# Altium footprint library LPS25HB_Breakout.PcbLib: 1 footprints
Each footprint in its own frame and in the unit in brackets; x right, y up, seen from the top. Pads: shape width x height; smd on the part's side, far side on the other; paste and mask are expansions set on the pad; w line width, h text height; cw(c..) or ccw(c..) is an arc to the next point about the centre after c.
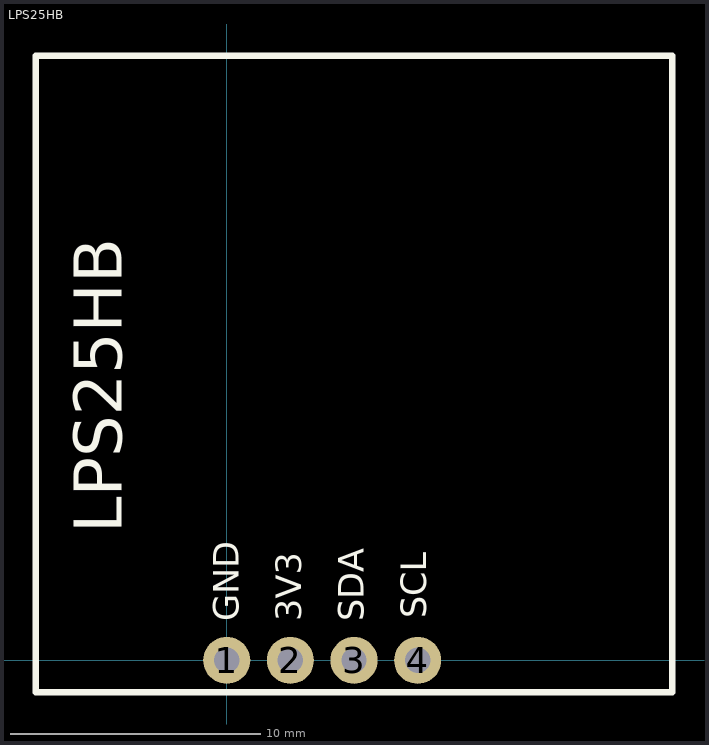
[diagram p0: the footprint, top view; thin cyan lines are the x and y axes]

## LPS25HB [mil]
pads (4):
  round 74 hole 40: 1(0,0) 2(100,0) 3(200,0) 4(300,0)
Top Overlay:
  lines w10: -300,-50 -300,950 700,950 700,-50 0,-50 -300,-50
  text "GND" at 18.5,61.5 h40
  text "3V3" at 116.83,61.5 h40
  text "SDA" at 215.17,61.5 h40
  text "SCL" at 313.5,66.5 h40
  text "LPS25HB" at -165,200 h75